# Altium footprint library Connectors.PcbLib: 17 footprints (part 2 of 2)
Each footprint in its own frame and in the unit in brackets; x right, y up, seen from the top. Pads: shape width x height; smd on the part's side, far side on the other; paste and mask are expansions set on the pad; w line width, h text height; cw(c..) or ccw(c..) is an arc to the next point about the centre after c.
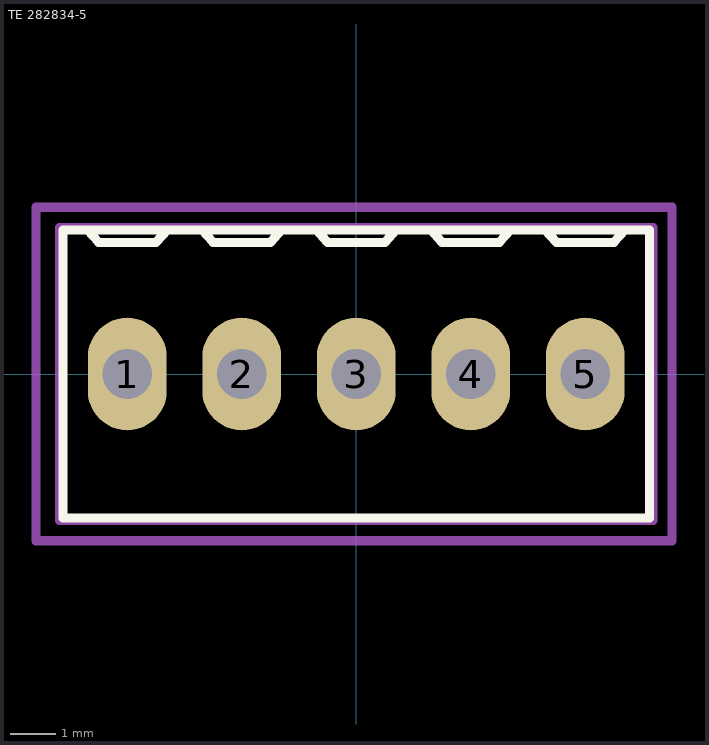
[diagram p1: the footprint, top view; thin cyan lines are the x and y axes]

## TE 282834-5 [mm]
height 10
pads (5):
  oval 1.75x2.5 hole 1.1: 1(-5.08,0) 2(-2.54,0) 3(0,0) 4(2.54,0) 5(5.08,0)
Top Overlay:
  lines w0.2: -5.969,3.2 -5.715,2.921 -4.445,2.921 -4.191,3.2 ; -3.429,3.2 -3.175,2.921 -1.905,2.921 -1.651,3.2 ; -0.889,3.2 -0.635,2.921 0.635,2.921 0.889,3.2 ; 1.651,3.2 1.905,2.921 3.175,2.921 3.429,3.2 ; 4.191,3.2 4.445,2.921 5.715,2.921 5.969,3.2 ; -6.51,-3.2 -6.51,3.2 6.51,3.2 6.51,-3.2 -6.41,-3.2 -6.51,-3.2
Mechanical 13:
  lines w0.2: -6.58,-3.25 6.58,-3.25 6.58,3.25 -6.58,3.25 -6.58,-3.25
Mechanical 15:
  lines w0.2: -0.5,0 0.5,0 ; 0,-0.5 0,0.5 ; -7.11,-3.7 -7.11,-3.3 -7.11,3.7 7.01,3.7 7.01,-2.9 7.01,-3.7 -7.11,-3.7
3D body "TE Term Block 5port 282834-5-c-3d.STEP": height 10, standoff -3.4, extent -6.58,-3.25 6.58,3.25